# EAGLE library part ICSP-HEADER (library ATMEGA328PB-AN)
AVR-ICSP Header
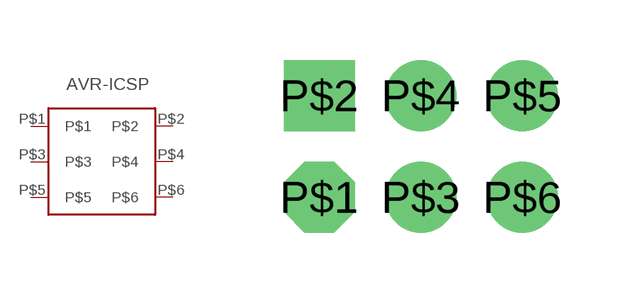
[diagram p6: symbol with the pads of ISCP-PORT; footprint ISCP-PORT]

Designator prefix -

## ICSP-HEADER  [ISCP-PORT]
P$1  P$1
P$2  P$2
P$3  P$3
P$4  P$4
P$5  P$5
P$6  P$6

## Footprint ISCP-PORT (pad centres in mm)
drill 1 pad 1.778 octagon: P$1 -2.54,0
drill 1 pad 1.778 square: P$2 -2.54,2.54
drill 1 pad 1.778: P$3 0,0; P$4 0,2.54; P$5 2.54,2.54; P$6 2.54,0